# EAGLE library part BME280 (library 25cmsquare)
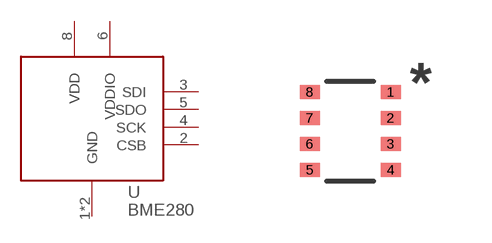
[diagram p9: symbol with the pads of BME1080; footprint BME1080]

Designator prefix U

## BME280  [BME1080]
1  GND  pwr
2  CSB
3  SDI
4  SCK
5  SDO
6  VDDIO  pwr
7  GND  pwr
8  VDD  pwr

## Footprint BME1080 (pad centres in mm)
smd 0.5 x 0.35: 1 1.012,0.975; 2 1.012,0.325; 3 1.012,-0.325; 4 1.012,-0.975; 5 -1.012,-0.975; 6 -1.012,-0.325; 7 -1.012,0.325; 8 -1.012,0.975